# EAGLE library part AOZ1281-BUCK (library LCD Connectors)
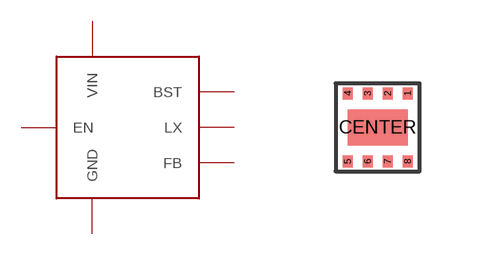
[diagram p5: symbol with the pads of 2X2-DFN; footprint 2X2-DFN]

Designator prefix -

## AOZ1281-BUCK  [2X2-DFN]
1  LX
2  VIN
3  VIN
4  EN
5  FB
6  GND
7  GND
8  BST
CENTER  GND

## Footprint 2X2-DFN (pad centres in mm)
smd 0.25 x 0.3: 1 1.5,0; 2 1,0; 3 0.5,0; 4 0,0; 5 0,-1.7; 6 0.5,-1.7; 7 1,-1.7; 8 1.5,-1.7
smd 1.5 x 0.9: CENTER 0.75,-0.85